# EAGLE library part 10051922-1510ELF (library FCI-tkr)
FFC/FPC CONNECTOR, 15POS, 1ROW
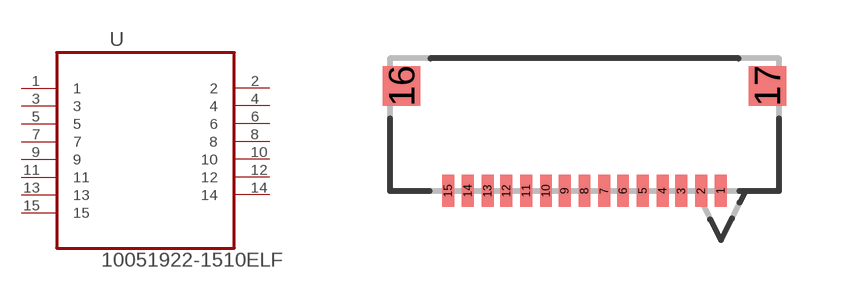
[diagram p2: symbol with the pads of FCI_10051922-1510ELF; footprint FCI_10051922-1510ELF]

Designator prefix U

## 10051922-1510ELF (MPN: 10051922-1510ELF; OC_FARNELL: -; OC_NEWARK: 95M0577; PACKAGE: CONNECTOR -15POS; SUPPLIER: FCI)  [FCI_10051922-1510ELF]
1  1  pas
2  2  pas
3  3  pas
4  4  pas
5  5  pas
6  6  pas
7  7  pas
8  8  pas
9  9  pas
10  10  pas
11  11  pas
12  12  pas
13  13  pas
14  14  pas
15  15  pas

## Footprint FCI_10051922-1510ELF (pad centres in mm)
smd 0.305 x 0.813: 1 3.505,1.702; 2 2.997,1.702; 3 2.489,1.702; 4 2.007,1.702; 5 1.499,1.702; 6 0.991,1.702; 7 0.508,1.702; 8 0,1.702; 9 -0.508,1.702; 10 -0.991,1.702; 11 -1.499,1.702; 12 -2.007,1.702; 13 -2.489,1.702; 14 -2.997,1.702; 15 -3.505,1.702
smd 0.965 x 1.016: 16 -4.699,4.394; 17 4.699,4.394